# Altium footprint library Connector_PinHeader_1.27mm.PcbLib: 278 footprints (part 14 of 18)
Each footprint in its own frame and in the unit in brackets; x right, y up, seen from the top. Pads: shape width x height; smd on the part's side, far side on the other; paste and mask are expansions set on the pad; w line width, h text height; cw(c..) or ccw(c..) is an arc to the next point about the centre after c.
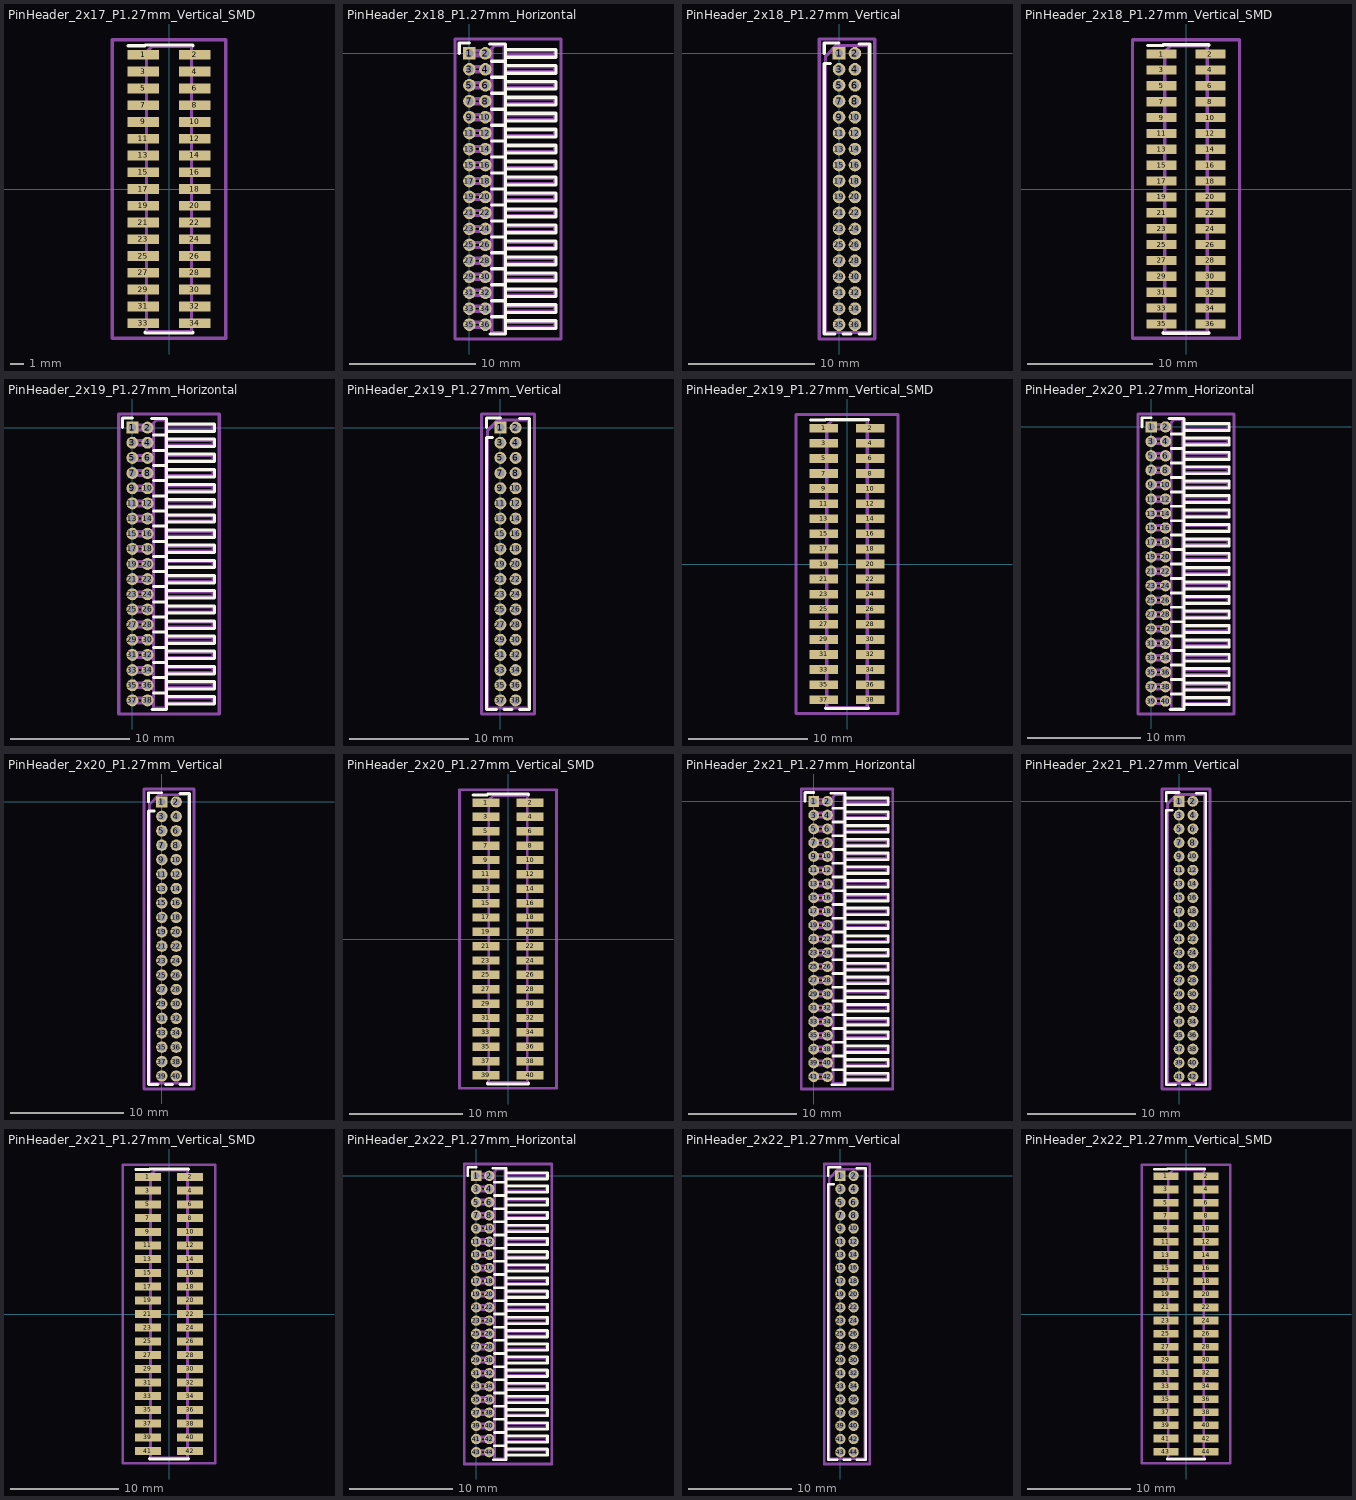
[diagram p13: the footprints below, top view; thin cyan lines are the x and y axes]

## PinHeader_2x17_P1.27mm_Vertical_SMD [mm]
pads (34):
  rect 2.4x0.74 smd: 1(-1.95,10.16) 2(1.95,10.16) 3(-1.95,8.89) 4(1.95,8.89) 5(-1.95,7.62) 6(1.95,7.62) 7(-1.95,6.35) 8(1.95,6.35) 9(-1.95,5.08) 10(1.95,5.08) 11(-1.95,3.81) 12(1.95,3.81) 13(-1.95,2.54) 14(1.95,2.54) 15(-1.95,1.27) 16(1.95,1.27) 17(-1.95,0) 18(1.95,0) 19(-1.95,-1.27) 20(1.95,-1.27) 21(-1.95,-2.54) 22(1.95,-2.54) 23(-1.95,-3.81) 24(1.95,-3.81) 25(-1.95,-5.08) 26(1.95,-5.08) 27(-1.95,-6.35) 28(1.95,-6.35) 29(-1.95,-7.62) 30(1.95,-7.62) 31(-1.95,-8.89) 32(1.95,-8.89) 33(-1.95,-10.16) 34(1.95,-10.16)
F.SilkS:
  lines w0.254: -3.09,10.84 -1.815,10.84 -1.815,10.905 1.815,10.905 1.815,10.84 ; -1.815,-10.84 -1.815,-10.905 1.815,-10.905 1.815,-10.84
Top Assembly:
  lines w0.254: -1.705,-10.36 -2.75,-10.36 -2.75,-9.96 -1.705,-9.96 ; -1.705,-9.09 -2.75,-9.09 -2.75,-8.69 -1.705,-8.69 ; -1.705,-7.82 -2.75,-7.82 -2.75,-7.42 -1.705,-7.42 ; -1.705,-6.55 -2.75,-6.55 -2.75,-6.15 -1.705,-6.15 ; -1.705,-5.28 -2.75,-5.28 -2.75,-4.88 -1.705,-4.88 ; -1.705,-4.01 -2.75,-4.01 -2.75,-3.61 -1.705,-3.61 ; -1.705,-2.74 -2.75,-2.74 -2.75,-2.34 -1.705,-2.34 ; -1.705,-1.47 -2.75,-1.47 -2.75,-1.07 -1.705,-1.07 ; -1.705,-0.2 -2.75,-0.2 -2.75,0.2 -1.705,0.2 ; -1.705,1.07 -2.75,1.07 -2.75,1.47 -1.705,1.47 ; -1.705,2.34 -2.75,2.34 -2.75,2.74 -1.705,2.74 ; -1.705,3.61 -2.75,3.61 -2.75,4.01 -1.705,4.01 ; -1.705,4.88 -2.75,4.88 -2.75,5.28 -1.705,5.28 ; -1.705,6.15 -2.75,6.15 -2.75,6.55 -1.705,6.55 ; -1.705,7.42 -2.75,7.42 -2.75,7.82 -1.705,7.82 ; -1.705,8.69 -2.75,8.69 -2.75,9.09 -1.705,9.09 ; -1.705,9.96 -2.75,9.96 -2.75,10.36 -1.705,10.36 ; 1.705,-10.36 2.75,-10.36 2.75,-9.96 1.705,-9.96 ; 1.705,-9.09 2.75,-9.09 2.75,-8.69 1.705,-8.69 ; 1.705,-7.82 2.75,-7.82 2.75,-7.42 1.705,-7.42 ; 1.705,-6.55 2.75,-6.55 2.75,-6.15 1.705,-6.15 ; 1.705,-5.28 2.75,-5.28 2.75,-4.88 1.705,-4.88 ; 1.705,-4.01 2.75,-4.01 2.75,-3.61 1.705,-3.61 ; 1.705,-2.74 2.75,-2.74 2.75,-2.34 1.705,-2.34 ; 1.705,-1.47 2.75,-1.47 2.75,-1.07 1.705,-1.07 ; 1.705,-0.2 2.75,-0.2 2.75,0.2 1.705,0.2 ; 1.705,1.07 2.75,1.07 2.75,1.47 1.705,1.47 ; 1.705,2.34 2.75,2.34 2.75,2.74 1.705,2.74 ; 1.705,3.61 2.75,3.61 2.75,4.01 1.705,4.01 ; 1.705,4.88 2.75,4.88 2.75,5.28 1.705,5.28 ; 1.705,6.15 2.75,6.15 2.75,6.55 1.705,6.55 ; 1.705,7.42 2.75,7.42 2.75,7.82 1.705,7.82 ; 1.705,8.69 2.75,8.69 2.75,9.09 1.705,9.09 ; 1.705,9.96 2.75,9.96 2.75,10.36 1.705,10.36 ; -1.705,10.36 -1.705,-10.795 1.705,-10.795 1.705,10.795 -1.27,10.795 -1.705,10.36
  text "'.Designator'" at 0.84,-4.047 h1
Top Courtyard:
  lines w0.254: -4.29,-11.3 4.29,-11.3 4.29,11.3 -4.29,11.3 -4.29,-11.3
Top Designator:
  text ".Designator" at -7.618,-0.508 h1.52

## PinHeader_2x18_P1.27mm_Horizontal [mm]
pads (36):
  rect 1x1 hole 0.65: 1(0,0)
  round 1 hole 0.65: 2(1.27,0) 3(0,-1.27) 4(1.27,-1.27) 5(0,-2.54) 6(1.27,-2.54) 7(0,-3.81) 8(1.27,-3.81) 9(0,-5.08) 10(1.27,-5.08) 11(0,-6.35) 12(1.27,-6.35) 13(0,-7.62) 14(1.27,-7.62) 15(0,-8.89) 16(1.27,-8.89) 17(0,-10.16) 18(1.27,-10.16) 19(0,-11.43) 20(1.27,-11.43) 21(0,-12.7) 22(1.27,-12.7) 23(0,-13.97) 24(1.27,-13.97) 25(0,-15.24) 26(1.27,-15.24) 27(0,-16.51) 28(1.27,-16.51) 29(0,-17.78) 30(1.27,-17.78) 31(0,-19.05) 32(1.27,-19.05) 33(0,-20.32) 34(1.27,-20.32) 35(0,-21.59) 36(1.27,-21.59)
F.SilkS:
  lines w0.254: -0.81,0 -0.81,0.81 0,0.81 ; 1.588,0.745 2.88,0.745 2.88,-22.335 1.66,-22.335 ; 1.773,-20.955 2.88,-20.955 ; 1.773,-19.685 2.88,-19.685 ; 1.773,-18.415 2.88,-18.415 ; 1.773,-17.145 2.88,-17.145 ; 1.773,-15.875 2.88,-15.875 ; 1.773,-14.605 2.88,-14.605 ; 1.773,-13.335 2.88,-13.335 ; 1.773,-12.065 2.88,-12.065 ; 1.773,-10.795 2.88,-10.795 ; 1.773,-9.525 2.88,-9.525 ; 1.773,-8.255 2.88,-8.255 ; 1.773,-6.985 2.88,-6.985 ; 1.773,-5.715 2.88,-5.715 ; 1.773,-4.445 2.88,-4.445 ; 1.773,-3.175 2.88,-3.175 ; 1.773,-1.905 2.88,-1.905 ; 1.773,-0.635 2.88,-0.635 ; 2.88,-21.9 6.88,-21.9 6.88,-21.28 2.88,-21.28 ; 2.88,-20.63 6.88,-20.63 6.88,-20.01 2.88,-20.01 ; 2.88,-19.36 6.88,-19.36 6.88,-18.74 2.88,-18.74 ; 2.88,-18.09 6.88,-18.09 6.88,-17.47 2.88,-17.47 ; 2.88,-16.82 6.88,-16.82 6.88,-16.2 2.88,-16.2 ; 2.88,-15.55 6.88,-15.55 6.88,-14.93 2.88,-14.93 ; 2.88,-14.28 6.88,-14.28 6.88,-13.66 2.88,-13.66 ; 2.88,-13.01 6.88,-13.01 6.88,-12.39 2.88,-12.39 ; 2.88,-11.74 6.88,-11.74 6.88,-11.12 2.88,-11.12 ; 2.88,-10.47 6.88,-10.47 6.88,-9.85 2.88,-9.85 ; 2.88,-9.2 6.88,-9.2 6.88,-8.58 2.88,-8.58 ; 2.88,-7.93 6.88,-7.93 6.88,-7.31 2.88,-7.31 ; 2.88,-6.66 6.88,-6.66 6.88,-6.04 2.88,-6.04 ; 2.88,-5.39 6.88,-5.39 6.88,-4.77 2.88,-4.77 ; 2.88,-4.12 6.88,-4.12 6.88,-3.5 2.88,-3.5 ; 2.88,-2.85 6.88,-2.85 6.88,-2.23 2.88,-2.23 ; 2.88,-1.58 6.88,-1.58 6.88,-0.96 2.88,-0.96 ; 2.88,-0.31 6.88,-0.31 6.88,0.31 2.88,0.31 2.88,-0.31
Top Assembly:
  lines w0.254: 1.77,-21.79 -0.2,-21.79 -0.2,-21.39 1.77,-21.39 ; 1.77,-20.52 -0.2,-20.52 -0.2,-20.12 1.77,-20.12 ; 1.77,-19.25 -0.2,-19.25 -0.2,-18.85 1.77,-18.85 ; 1.77,-17.98 -0.2,-17.98 -0.2,-17.58 1.77,-17.58 ; 1.77,-16.71 -0.2,-16.71 -0.2,-16.31 1.77,-16.31 ; 1.77,-15.44 -0.2,-15.44 -0.2,-15.04 1.77,-15.04 ; 1.77,-14.17 -0.2,-14.17 -0.2,-13.77 1.77,-13.77 ; 1.77,-12.9 -0.2,-12.9 -0.2,-12.5 1.77,-12.5 ; 1.77,-11.63 -0.2,-11.63 -0.2,-11.23 1.77,-11.23 ; 1.77,-10.36 -0.2,-10.36 -0.2,-9.96 1.77,-9.96 ; 1.77,-9.09 -0.2,-9.09 -0.2,-8.69 1.77,-8.69 ; 1.77,-7.82 -0.2,-7.82 -0.2,-7.42 1.77,-7.42 ; 1.77,-6.55 -0.2,-6.55 -0.2,-6.15 1.77,-6.15 ; 1.77,-5.28 -0.2,-5.28 -0.2,-4.88 1.77,-4.88 ; 1.77,-4.01 -0.2,-4.01 -0.2,-3.61 1.77,-3.61 ; 1.77,-2.74 -0.2,-2.74 -0.2,-2.34 1.77,-2.34 ; 1.77,-1.47 -0.2,-1.47 -0.2,-1.07 1.77,-1.07 ; 1.77,-0.2 -0.2,-0.2 -0.2,0.2 1.77,0.2 ; 2.77,-21.79 6.77,-21.79 6.77,-21.39 2.77,-21.39 ; 2.77,-20.52 6.77,-20.52 6.77,-20.12 2.77,-20.12 ; 2.77,-19.25 6.77,-19.25 6.77,-18.85 2.77,-18.85 ; 2.77,-17.98 6.77,-17.98 6.77,-17.58 2.77,-17.58 ; 2.77,-16.71 6.77,-16.71 6.77,-16.31 2.77,-16.31 ; 2.77,-15.44 6.77,-15.44 6.77,-15.04 2.77,-15.04 ; 2.77,-14.17 6.77,-14.17 6.77,-13.77 2.77,-13.77 ; 2.77,-12.9 6.77,-12.9 6.77,-12.5 2.77,-12.5 ; 2.77,-11.63 6.77,-11.63 6.77,-11.23 2.77,-11.23 ; 2.77,-10.36 6.77,-10.36 6.77,-9.96 2.77,-9.96 ; 2.77,-9.09 6.77,-9.09 6.77,-8.69 2.77,-8.69 ; 2.77,-7.82 6.77,-7.82 6.77,-7.42 2.77,-7.42 ; 2.77,-6.55 6.77,-6.55 6.77,-6.15 2.77,-6.15 ; 2.77,-5.28 6.77,-5.28 6.77,-4.88 2.77,-4.88 ; 2.77,-4.01 6.77,-4.01 6.77,-3.61 2.77,-3.61 ; 2.77,-2.74 6.77,-2.74 6.77,-2.34 2.77,-2.34 ; 2.77,-1.47 6.77,-1.47 6.77,-1.07 2.77,-1.07 ; 2.77,-0.2 6.77,-0.2 6.77,0.2 2.77,0.2 ; 1.77,-22.225 2.77,-22.225 2.77,0.635 2.02,0.635 1.77,0.385 1.77,-22.225
  text "'.Designator'" at 2.774,-13.223 h0.6
Top Courtyard:
  lines w0.254: -1.14,-22.73 7.28,-22.73 7.28,1.14 -1.14,1.14 -1.14,-22.73
Top Designator:
  text ".Designator" at -4.548,-11.303 h1.52

## PinHeader_2x18_P1.27mm_Vertical [mm]
pads (36):
  rect 1x1 hole 0.65: 1(0,0)
  round 1 hole 0.65: 2(1.27,0) 3(0,-1.27) 4(1.27,-1.27) 5(0,-2.54) 6(1.27,-2.54) 7(0,-3.81) 8(1.27,-3.81) 9(0,-5.08) 10(1.27,-5.08) 11(0,-6.35) 12(1.27,-6.35) 13(0,-7.62) 14(1.27,-7.62) 15(0,-8.89) 16(1.27,-8.89) 17(0,-10.16) 18(1.27,-10.16) 19(0,-11.43) 20(1.27,-11.43) 21(0,-12.7) 22(1.27,-12.7) 23(0,-13.97) 24(1.27,-13.97) 25(0,-15.24) 26(1.27,-15.24) 27(0,-16.51) 28(1.27,-16.51) 29(0,-17.78) 30(1.27,-17.78) 31(0,-19.05) 32(1.27,-19.05) 33(0,-20.32) 34(1.27,-20.32) 35(0,-21.59) 36(1.27,-21.59)
F.SilkS:
  lines w0.254: -1.18,0 -1.18,0.81 0,0.81 ; -0.667,-0.81 -1.18,-0.81 -1.18,-22.335 -0.318,-22.335 ; 0.318,-22.335 0.952,-22.335 ; 1.588,-22.335 2.45,-22.335 2.45,0.745 1.588,0.745
Top Assembly:
  lines w0.254: -1.07,-22.225 2.34,-22.225 2.34,0.635 -0.218,0.635 -1.07,-0.218 -1.07,-22.225
  text "'.Designator'" at 1.475,-14.842 h1
Top Courtyard:
  lines w0.254: -1.57,-22.73 2.84,-22.73 2.84,1.14 -1.57,1.14 -1.57,-22.73
Top Designator:
  text ".Designator" at -6.983,-11.303 h1.52

## PinHeader_2x18_P1.27mm_Vertical_SMD [mm]
pads (36):
  rect 2.4x0.74 smd: 1(-1.95,10.795) 2(1.95,10.795) 3(-1.95,9.525) 4(1.95,9.525) 5(-1.95,8.255) 6(1.95,8.255) 7(-1.95,6.985) 8(1.95,6.985) 9(-1.95,5.715) 10(1.95,5.715) 11(-1.95,4.445) 12(1.95,4.445) 13(-1.95,3.175) 14(1.95,3.175) 15(-1.95,1.905) 16(1.95,1.905) 17(-1.95,0.635) 18(1.95,0.635) 19(-1.95,-0.635) 20(1.95,-0.635) 21(-1.95,-1.905) 22(1.95,-1.905) 23(-1.95,-3.175) 24(1.95,-3.175) 25(-1.95,-4.445) 26(1.95,-4.445) 27(-1.95,-5.715) 28(1.95,-5.715) 29(-1.95,-6.985) 30(1.95,-6.985) 31(-1.95,-8.255) 32(1.95,-8.255) 33(-1.95,-9.525) 34(1.95,-9.525) 35(-1.95,-10.795) 36(1.95,-10.795)
F.SilkS:
  lines w0.254: -3.09,11.475 -1.815,11.475 -1.815,11.54 1.815,11.54 1.815,11.475 ; -1.815,-11.475 -1.815,-11.54 1.815,-11.54 1.815,-11.475
Top Assembly:
  lines w0.254: -1.705,-10.995 -2.75,-10.995 -2.75,-10.595 -1.705,-10.595 ; -1.705,-9.725 -2.75,-9.725 -2.75,-9.325 -1.705,-9.325 ; -1.705,-8.455 -2.75,-8.455 -2.75,-8.055 -1.705,-8.055 ; -1.705,-7.185 -2.75,-7.185 -2.75,-6.785 -1.705,-6.785 ; -1.705,-5.915 -2.75,-5.915 -2.75,-5.515 -1.705,-5.515 ; -1.705,-4.645 -2.75,-4.645 -2.75,-4.245 -1.705,-4.245 ; -1.705,-3.375 -2.75,-3.375 -2.75,-2.975 -1.705,-2.975 ; -1.705,-2.105 -2.75,-2.105 -2.75,-1.705 -1.705,-1.705 ; -1.705,-0.835 -2.75,-0.835 -2.75,-0.435 -1.705,-0.435 ; -1.705,0.435 -2.75,0.435 -2.75,0.835 -1.705,0.835 ; -1.705,1.705 -2.75,1.705 -2.75,2.105 -1.705,2.105 ; -1.705,2.975 -2.75,2.975 -2.75,3.375 -1.705,3.375 ; -1.705,4.245 -2.75,4.245 -2.75,4.645 -1.705,4.645 ; -1.705,5.515 -2.75,5.515 -2.75,5.915 -1.705,5.915 ; -1.705,6.785 -2.75,6.785 -2.75,7.185 -1.705,7.185 ; -1.705,8.055 -2.75,8.055 -2.75,8.455 -1.705,8.455 ; -1.705,9.325 -2.75,9.325 -2.75,9.725 -1.705,9.725 ; -1.705,10.595 -2.75,10.595 -2.75,10.995 -1.705,10.995 ; 1.705,-10.995 2.75,-10.995 2.75,-10.595 1.705,-10.595 ; 1.705,-9.725 2.75,-9.725 2.75,-9.325 1.705,-9.325 ; 1.705,-8.455 2.75,-8.455 2.75,-8.055 1.705,-8.055 ; 1.705,-7.185 2.75,-7.185 2.75,-6.785 1.705,-6.785 ; 1.705,-5.915 2.75,-5.915 2.75,-5.515 1.705,-5.515 ; 1.705,-4.645 2.75,-4.645 2.75,-4.245 1.705,-4.245 ; 1.705,-3.375 2.75,-3.375 2.75,-2.975 1.705,-2.975 ; 1.705,-2.105 2.75,-2.105 2.75,-1.705 1.705,-1.705 ; 1.705,-0.835 2.75,-0.835 2.75,-0.435 1.705,-0.435 ; 1.705,0.435 2.75,0.435 2.75,0.835 1.705,0.835 ; 1.705,1.705 2.75,1.705 2.75,2.105 1.705,2.105 ; 1.705,2.975 2.75,2.975 2.75,3.375 1.705,3.375 ; 1.705,4.245 2.75,4.245 2.75,4.645 1.705,4.645 ; 1.705,5.515 2.75,5.515 2.75,5.915 1.705,5.915 ; 1.705,6.785 2.75,6.785 2.75,7.185 1.705,7.185 ; 1.705,8.055 2.75,8.055 2.75,8.455 1.705,8.455 ; 1.705,9.325 2.75,9.325 2.75,9.725 1.705,9.725 ; 1.705,10.595 2.75,10.595 2.75,10.995 1.705,10.995 ; -1.705,10.995 -1.705,-11.43 1.705,-11.43 1.705,11.43 -1.27,11.43 -1.705,10.995
  text "'.Designator'" at 0.84,-4.047 h1
Top Courtyard:
  lines w0.254: -4.29,-11.94 4.29,-11.94 4.29,11.94 -4.29,11.94 -4.29,-11.94
Top Designator:
  text ".Designator" at -7.618,-0.508 h1.52

## PinHeader_2x19_P1.27mm_Horizontal [mm]
pads (38):
  rect 1x1 hole 0.65: 1(0,0)
  round 1 hole 0.65: 2(1.27,0) 3(0,-1.27) 4(1.27,-1.27) 5(0,-2.54) 6(1.27,-2.54) 7(0,-3.81) 8(1.27,-3.81) 9(0,-5.08) 10(1.27,-5.08) 11(0,-6.35) 12(1.27,-6.35) 13(0,-7.62) 14(1.27,-7.62) 15(0,-8.89) 16(1.27,-8.89) 17(0,-10.16) 18(1.27,-10.16) 19(0,-11.43) 20(1.27,-11.43) 21(0,-12.7) 22(1.27,-12.7) 23(0,-13.97) 24(1.27,-13.97) 25(0,-15.24) 26(1.27,-15.24) 27(0,-16.51) 28(1.27,-16.51) 29(0,-17.78) 30(1.27,-17.78) 31(0,-19.05) 32(1.27,-19.05) 33(0,-20.32) 34(1.27,-20.32) 35(0,-21.59) 36(1.27,-21.59) 37(0,-22.86) 38(1.27,-22.86)
F.SilkS:
  lines w0.254: -0.81,0 -0.81,0.81 0,0.81 ; 1.588,0.745 2.88,0.745 2.88,-23.605 1.66,-23.605 ; 1.773,-22.225 2.88,-22.225 ; 1.773,-20.955 2.88,-20.955 ; 1.773,-19.685 2.88,-19.685 ; 1.773,-18.415 2.88,-18.415 ; 1.773,-17.145 2.88,-17.145 ; 1.773,-15.875 2.88,-15.875 ; 1.773,-14.605 2.88,-14.605 ; 1.773,-13.335 2.88,-13.335 ; 1.773,-12.065 2.88,-12.065 ; 1.773,-10.795 2.88,-10.795 ; 1.773,-9.525 2.88,-9.525 ; 1.773,-8.255 2.88,-8.255 ; 1.773,-6.985 2.88,-6.985 ; 1.773,-5.715 2.88,-5.715 ; 1.773,-4.445 2.88,-4.445 ; 1.773,-3.175 2.88,-3.175 ; 1.773,-1.905 2.88,-1.905 ; 1.773,-0.635 2.88,-0.635 ; 2.88,-23.17 6.88,-23.17 6.88,-22.55 2.88,-22.55 ; 2.88,-21.9 6.88,-21.9 6.88,-21.28 2.88,-21.28 ; 2.88,-20.63 6.88,-20.63 6.88,-20.01 2.88,-20.01 ; 2.88,-19.36 6.88,-19.36 6.88,-18.74 2.88,-18.74 ; 2.88,-18.09 6.88,-18.09 6.88,-17.47 2.88,-17.47 ; 2.88,-16.82 6.88,-16.82 6.88,-16.2 2.88,-16.2 ; 2.88,-15.55 6.88,-15.55 6.88,-14.93 2.88,-14.93 ; 2.88,-14.28 6.88,-14.28 6.88,-13.66 2.88,-13.66 ; 2.88,-13.01 6.88,-13.01 6.88,-12.39 2.88,-12.39 ; 2.88,-11.74 6.88,-11.74 6.88,-11.12 2.88,-11.12 ; 2.88,-10.47 6.88,-10.47 6.88,-9.85 2.88,-9.85 ; 2.88,-9.2 6.88,-9.2 6.88,-8.58 2.88,-8.58 ; 2.88,-7.93 6.88,-7.93 6.88,-7.31 2.88,-7.31 ; 2.88,-6.66 6.88,-6.66 6.88,-6.04 2.88,-6.04 ; 2.88,-5.39 6.88,-5.39 6.88,-4.77 2.88,-4.77 ; 2.88,-4.12 6.88,-4.12 6.88,-3.5 2.88,-3.5 ; 2.88,-2.85 6.88,-2.85 6.88,-2.23 2.88,-2.23 ; 2.88,-1.58 6.88,-1.58 6.88,-0.96 2.88,-0.96 ; 2.88,-0.31 6.88,-0.31 6.88,0.31 2.88,0.31 2.88,-0.31
Top Assembly:
  lines w0.254: 1.77,-23.06 -0.2,-23.06 -0.2,-22.66 1.77,-22.66 ; 1.77,-21.79 -0.2,-21.79 -0.2,-21.39 1.77,-21.39 ; 1.77,-20.52 -0.2,-20.52 -0.2,-20.12 1.77,-20.12 ; 1.77,-19.25 -0.2,-19.25 -0.2,-18.85 1.77,-18.85 ; 1.77,-17.98 -0.2,-17.98 -0.2,-17.58 1.77,-17.58 ; 1.77,-16.71 -0.2,-16.71 -0.2,-16.31 1.77,-16.31 ; 1.77,-15.44 -0.2,-15.44 -0.2,-15.04 1.77,-15.04 ; 1.77,-14.17 -0.2,-14.17 -0.2,-13.77 1.77,-13.77 ; 1.77,-12.9 -0.2,-12.9 -0.2,-12.5 1.77,-12.5 ; 1.77,-11.63 -0.2,-11.63 -0.2,-11.23 1.77,-11.23 ; 1.77,-10.36 -0.2,-10.36 -0.2,-9.96 1.77,-9.96 ; 1.77,-9.09 -0.2,-9.09 -0.2,-8.69 1.77,-8.69 ; 1.77,-7.82 -0.2,-7.82 -0.2,-7.42 1.77,-7.42 ; 1.77,-6.55 -0.2,-6.55 -0.2,-6.15 1.77,-6.15 ; 1.77,-5.28 -0.2,-5.28 -0.2,-4.88 1.77,-4.88 ; 1.77,-4.01 -0.2,-4.01 -0.2,-3.61 1.77,-3.61 ; 1.77,-2.74 -0.2,-2.74 -0.2,-2.34 1.77,-2.34 ; 1.77,-1.47 -0.2,-1.47 -0.2,-1.07 1.77,-1.07 ; 1.77,-0.2 -0.2,-0.2 -0.2,0.2 1.77,0.2 ; 2.77,-23.06 6.77,-23.06 6.77,-22.66 2.77,-22.66 ; 2.77,-21.79 6.77,-21.79 6.77,-21.39 2.77,-21.39 ; 2.77,-20.52 6.77,-20.52 6.77,-20.12 2.77,-20.12 ; 2.77,-19.25 6.77,-19.25 6.77,-18.85 2.77,-18.85 ; 2.77,-17.98 6.77,-17.98 6.77,-17.58 2.77,-17.58 ; 2.77,-16.71 6.77,-16.71 6.77,-16.31 2.77,-16.31 ; 2.77,-15.44 6.77,-15.44 6.77,-15.04 2.77,-15.04 ; 2.77,-14.17 6.77,-14.17 6.77,-13.77 2.77,-13.77 ; 2.77,-12.9 6.77,-12.9 6.77,-12.5 2.77,-12.5 ; 2.77,-11.63 6.77,-11.63 6.77,-11.23 2.77,-11.23 ; 2.77,-10.36 6.77,-10.36 6.77,-9.96 2.77,-9.96 ; 2.77,-9.09 6.77,-9.09 6.77,-8.69 2.77,-8.69 ; 2.77,-7.82 6.77,-7.82 6.77,-7.42 2.77,-7.42 ; 2.77,-6.55 6.77,-6.55 6.77,-6.15 2.77,-6.15 ; 2.77,-5.28 6.77,-5.28 6.77,-4.88 2.77,-4.88 ; 2.77,-4.01 6.77,-4.01 6.77,-3.61 2.77,-3.61 ; 2.77,-2.74 6.77,-2.74 6.77,-2.34 2.77,-2.34 ; 2.77,-1.47 6.77,-1.47 6.77,-1.07 2.77,-1.07 ; 2.77,-0.2 6.77,-0.2 6.77,0.2 2.77,0.2 ; 1.77,-23.495 2.77,-23.495 2.77,0.635 2.02,0.635 1.77,0.385 1.77,-23.495
  text "'.Designator'" at 2.774,-13.858 h0.6
Top Courtyard:
  lines w0.254: -1.14,-24 7.28,-24 7.28,1.14 -1.14,1.14 -1.14,-24
Top Designator:
  text ".Designator" at -4.548,-11.938 h1.52

## PinHeader_2x19_P1.27mm_Vertical [mm]
pads (38):
  rect 1x1 hole 0.65: 1(0,0)
  round 1 hole 0.65: 2(1.27,0) 3(0,-1.27) 4(1.27,-1.27) 5(0,-2.54) 6(1.27,-2.54) 7(0,-3.81) 8(1.27,-3.81) 9(0,-5.08) 10(1.27,-5.08) 11(0,-6.35) 12(1.27,-6.35) 13(0,-7.62) 14(1.27,-7.62) 15(0,-8.89) 16(1.27,-8.89) 17(0,-10.16) 18(1.27,-10.16) 19(0,-11.43) 20(1.27,-11.43) 21(0,-12.7) 22(1.27,-12.7) 23(0,-13.97) 24(1.27,-13.97) 25(0,-15.24) 26(1.27,-15.24) 27(0,-16.51) 28(1.27,-16.51) 29(0,-17.78) 30(1.27,-17.78) 31(0,-19.05) 32(1.27,-19.05) 33(0,-20.32) 34(1.27,-20.32) 35(0,-21.59) 36(1.27,-21.59) 37(0,-22.86) 38(1.27,-22.86)
F.SilkS:
  lines w0.254: -1.18,0 -1.18,0.81 0,0.81 ; -0.667,-0.81 -1.18,-0.81 -1.18,-23.605 -0.318,-23.605 ; 0.318,-23.605 0.952,-23.605 ; 1.588,-23.605 2.45,-23.605 2.45,0.745 1.588,0.745
Top Assembly:
  lines w0.254: -1.07,-23.495 2.34,-23.495 2.34,0.635 -0.218,0.635 -1.07,-0.218 -1.07,-23.495
  text "'.Designator'" at 1.475,-15.477 h1
Top Courtyard:
  lines w0.254: -1.57,-24 2.84,-24 2.84,1.14 -1.57,1.14 -1.57,-24
Top Designator:
  text ".Designator" at -6.983,-11.938 h1.52

## PinHeader_2x19_P1.27mm_Vertical_SMD [mm]
pads (38):
  rect 2.4x0.74 smd: 1(-1.95,11.43) 2(1.95,11.43) 3(-1.95,10.16) 4(1.95,10.16) 5(-1.95,8.89) 6(1.95,8.89) 7(-1.95,7.62) 8(1.95,7.62) 9(-1.95,6.35) 10(1.95,6.35) 11(-1.95,5.08) 12(1.95,5.08) 13(-1.95,3.81) 14(1.95,3.81) 15(-1.95,2.54) 16(1.95,2.54) 17(-1.95,1.27) 18(1.95,1.27) 19(-1.95,0) 20(1.95,0) 21(-1.95,-1.27) 22(1.95,-1.27) 23(-1.95,-2.54) 24(1.95,-2.54) 25(-1.95,-3.81) 26(1.95,-3.81) 27(-1.95,-5.08) 28(1.95,-5.08) 29(-1.95,-6.35) 30(1.95,-6.35) 31(-1.95,-7.62) 32(1.95,-7.62) 33(-1.95,-8.89) 34(1.95,-8.89) 35(-1.95,-10.16) 36(1.95,-10.16) 37(-1.95,-11.43) 38(1.95,-11.43)
F.SilkS:
  lines w0.254: -3.09,12.11 -1.815,12.11 -1.815,12.175 1.815,12.175 1.815,12.11 ; -1.815,-12.11 -1.815,-12.175 1.815,-12.175 1.815,-12.11
Top Assembly:
  lines w0.254: -1.705,-11.63 -2.75,-11.63 -2.75,-11.23 -1.705,-11.23 ; -1.705,-10.36 -2.75,-10.36 -2.75,-9.96 -1.705,-9.96 ; -1.705,-9.09 -2.75,-9.09 -2.75,-8.69 -1.705,-8.69 ; -1.705,-7.82 -2.75,-7.82 -2.75,-7.42 -1.705,-7.42 ; -1.705,-6.55 -2.75,-6.55 -2.75,-6.15 -1.705,-6.15 ; -1.705,-5.28 -2.75,-5.28 -2.75,-4.88 -1.705,-4.88 ; -1.705,-4.01 -2.75,-4.01 -2.75,-3.61 -1.705,-3.61 ; -1.705,-2.74 -2.75,-2.74 -2.75,-2.34 -1.705,-2.34 ; -1.705,-1.47 -2.75,-1.47 -2.75,-1.07 -1.705,-1.07 ; -1.705,-0.2 -2.75,-0.2 -2.75,0.2 -1.705,0.2 ; -1.705,1.07 -2.75,1.07 -2.75,1.47 -1.705,1.47 ; -1.705,2.34 -2.75,2.34 -2.75,2.74 -1.705,2.74 ; -1.705,3.61 -2.75,3.61 -2.75,4.01 -1.705,4.01 ; -1.705,4.88 -2.75,4.88 -2.75,5.28 -1.705,5.28 ; -1.705,6.15 -2.75,6.15 -2.75,6.55 -1.705,6.55 ; -1.705,7.42 -2.75,7.42 -2.75,7.82 -1.705,7.82 ; -1.705,8.69 -2.75,8.69 -2.75,9.09 -1.705,9.09 ; -1.705,9.96 -2.75,9.96 -2.75,10.36 -1.705,10.36 ; -1.705,11.23 -2.75,11.23 -2.75,11.63 -1.705,11.63 ; 1.705,-11.63 2.75,-11.63 2.75,-11.23 1.705,-11.23 ; 1.705,-10.36 2.75,-10.36 2.75,-9.96 1.705,-9.96 ; 1.705,-9.09 2.75,-9.09 2.75,-8.69 1.705,-8.69 ; 1.705,-7.82 2.75,-7.82 2.75,-7.42 1.705,-7.42 ; 1.705,-6.55 2.75,-6.55 2.75,-6.15 1.705,-6.15 ; 1.705,-5.28 2.75,-5.28 2.75,-4.88 1.705,-4.88 ; 1.705,-4.01 2.75,-4.01 2.75,-3.61 1.705,-3.61 ; 1.705,-2.74 2.75,-2.74 2.75,-2.34 1.705,-2.34 ; 1.705,-1.47 2.75,-1.47 2.75,-1.07 1.705,-1.07 ; 1.705,-0.2 2.75,-0.2 2.75,0.2 1.705,0.2 ; 1.705,1.07 2.75,1.07 2.75,1.47 1.705,1.47 ; 1.705,2.34 2.75,2.34 2.75,2.74 1.705,2.74 ; 1.705,3.61 2.75,3.61 2.75,4.01 1.705,4.01 ; 1.705,4.88 2.75,4.88 2.75,5.28 1.705,5.28 ; 1.705,6.15 2.75,6.15 2.75,6.55 1.705,6.55 ; 1.705,7.42 2.75,7.42 2.75,7.82 1.705,7.82 ; 1.705,8.69 2.75,8.69 2.75,9.09 1.705,9.09 ; 1.705,9.96 2.75,9.96 2.75,10.36 1.705,10.36 ; 1.705,11.23 2.75,11.23 2.75,11.63 1.705,11.63 ; -1.705,11.63 -1.705,-12.065 1.705,-12.065 1.705,12.065 -1.27,12.065 -1.705,11.63
  text "'.Designator'" at 0.84,-4.047 h1
Top Courtyard:
  lines w0.254: -4.29,-12.57 4.29,-12.57 4.29,12.57 -4.29,12.57 -4.29,-12.57
Top Designator:
  text ".Designator" at -7.618,-0.508 h1.52

## PinHeader_2x20_P1.27mm_Horizontal [mm]
pads (40):
  rect 1x1 hole 0.65: 1(0,0)
  round 1 hole 0.65: 2(1.27,0) 3(0,-1.27) 4(1.27,-1.27) 5(0,-2.54) 6(1.27,-2.54) 7(0,-3.81) 8(1.27,-3.81) 9(0,-5.08) 10(1.27,-5.08) 11(0,-6.35) 12(1.27,-6.35) 13(0,-7.62) 14(1.27,-7.62) 15(0,-8.89) 16(1.27,-8.89) 17(0,-10.16) 18(1.27,-10.16) 19(0,-11.43) 20(1.27,-11.43) 21(0,-12.7) 22(1.27,-12.7) 23(0,-13.97) 24(1.27,-13.97) 25(0,-15.24) 26(1.27,-15.24) 27(0,-16.51) 28(1.27,-16.51) 29(0,-17.78) 30(1.27,-17.78) 31(0,-19.05) 32(1.27,-19.05) 33(0,-20.32) 34(1.27,-20.32) 35(0,-21.59) 36(1.27,-21.59) 37(0,-22.86) 38(1.27,-22.86) 39(0,-24.13) 40(1.27,-24.13)
F.SilkS:
  lines w0.254: -0.81,0 -0.81,0.81 0,0.81 ; 1.588,0.745 2.88,0.745 2.88,-24.875 1.66,-24.875 ; 1.773,-23.495 2.88,-23.495 ; 1.773,-22.225 2.88,-22.225 ; 1.773,-20.955 2.88,-20.955 ; 1.773,-19.685 2.88,-19.685 ; 1.773,-18.415 2.88,-18.415 ; 1.773,-17.145 2.88,-17.145 ; 1.773,-15.875 2.88,-15.875 ; 1.773,-14.605 2.88,-14.605 ; 1.773,-13.335 2.88,-13.335 ; 1.773,-12.065 2.88,-12.065 ; 1.773,-10.795 2.88,-10.795 ; 1.773,-9.525 2.88,-9.525 ; 1.773,-8.255 2.88,-8.255 ; 1.773,-6.985 2.88,-6.985 ; 1.773,-5.715 2.88,-5.715 ; 1.773,-4.445 2.88,-4.445 ; 1.773,-3.175 2.88,-3.175 ; 1.773,-1.905 2.88,-1.905 ; 1.773,-0.635 2.88,-0.635 ; 2.88,-24.44 6.88,-24.44 6.88,-23.82 2.88,-23.82 ; 2.88,-23.17 6.88,-23.17 6.88,-22.55 2.88,-22.55 ; 2.88,-21.9 6.88,-21.9 6.88,-21.28 2.88,-21.28 ; 2.88,-20.63 6.88,-20.63 6.88,-20.01 2.88,-20.01 ; 2.88,-19.36 6.88,-19.36 6.88,-18.74 2.88,-18.74 ; 2.88,-18.09 6.88,-18.09 6.88,-17.47 2.88,-17.47 ; 2.88,-16.82 6.88,-16.82 6.88,-16.2 2.88,-16.2 ; 2.88,-15.55 6.88,-15.55 6.88,-14.93 2.88,-14.93 ; 2.88,-14.28 6.88,-14.28 6.88,-13.66 2.88,-13.66 ; 2.88,-13.01 6.88,-13.01 6.88,-12.39 2.88,-12.39 ; 2.88,-11.74 6.88,-11.74 6.88,-11.12 2.88,-11.12 ; 2.88,-10.47 6.88,-10.47 6.88,-9.85 2.88,-9.85 ; 2.88,-9.2 6.88,-9.2 6.88,-8.58 2.88,-8.58 ; 2.88,-7.93 6.88,-7.93 6.88,-7.31 2.88,-7.31 ; 2.88,-6.66 6.88,-6.66 6.88,-6.04 2.88,-6.04 ; 2.88,-5.39 6.88,-5.39 6.88,-4.77 2.88,-4.77 ; 2.88,-4.12 6.88,-4.12 6.88,-3.5 2.88,-3.5 ; 2.88,-2.85 6.88,-2.85 6.88,-2.23 2.88,-2.23 ; 2.88,-1.58 6.88,-1.58 6.88,-0.96 2.88,-0.96 ; 2.88,-0.31 6.88,-0.31 6.88,0.31 2.88,0.31 2.88,-0.31
Top Assembly:
  lines w0.254: 1.77,-24.33 -0.2,-24.33 -0.2,-23.93 1.77,-23.93 ; 1.77,-23.06 -0.2,-23.06 -0.2,-22.66 1.77,-22.66 ; 1.77,-21.79 -0.2,-21.79 -0.2,-21.39 1.77,-21.39 ; 1.77,-20.52 -0.2,-20.52 -0.2,-20.12 1.77,-20.12 ; 1.77,-19.25 -0.2,-19.25 -0.2,-18.85 1.77,-18.85 ; 1.77,-17.98 -0.2,-17.98 -0.2,-17.58 1.77,-17.58 ; 1.77,-16.71 -0.2,-16.71 -0.2,-16.31 1.77,-16.31 ; 1.77,-15.44 -0.2,-15.44 -0.2,-15.04 1.77,-15.04 ; 1.77,-14.17 -0.2,-14.17 -0.2,-13.77 1.77,-13.77 ; 1.77,-12.9 -0.2,-12.9 -0.2,-12.5 1.77,-12.5 ; 1.77,-11.63 -0.2,-11.63 -0.2,-11.23 1.77,-11.23 ; 1.77,-10.36 -0.2,-10.36 -0.2,-9.96 1.77,-9.96 ; 1.77,-9.09 -0.2,-9.09 -0.2,-8.69 1.77,-8.69 ; 1.77,-7.82 -0.2,-7.82 -0.2,-7.42 1.77,-7.42 ; 1.77,-6.55 -0.2,-6.55 -0.2,-6.15 1.77,-6.15 ; 1.77,-5.28 -0.2,-5.28 -0.2,-4.88 1.77,-4.88 ; 1.77,-4.01 -0.2,-4.01 -0.2,-3.61 1.77,-3.61 ; 1.77,-2.74 -0.2,-2.74 -0.2,-2.34 1.77,-2.34 ; 1.77,-1.47 -0.2,-1.47 -0.2,-1.07 1.77,-1.07 ; 1.77,-0.2 -0.2,-0.2 -0.2,0.2 1.77,0.2 ; 2.77,-24.33 6.77,-24.33 6.77,-23.93 2.77,-23.93 ; 2.77,-23.06 6.77,-23.06 6.77,-22.66 2.77,-22.66 ; 2.77,-21.79 6.77,-21.79 6.77,-21.39 2.77,-21.39 ; 2.77,-20.52 6.77,-20.52 6.77,-20.12 2.77,-20.12 ; 2.77,-19.25 6.77,-19.25 6.77,-18.85 2.77,-18.85 ; 2.77,-17.98 6.77,-17.98 6.77,-17.58 2.77,-17.58 ; 2.77,-16.71 6.77,-16.71 6.77,-16.31 2.77,-16.31 ; 2.77,-15.44 6.77,-15.44 6.77,-15.04 2.77,-15.04 ; 2.77,-14.17 6.77,-14.17 6.77,-13.77 2.77,-13.77 ; 2.77,-12.9 6.77,-12.9 6.77,-12.5 2.77,-12.5 ; 2.77,-11.63 6.77,-11.63 6.77,-11.23 2.77,-11.23 ; 2.77,-10.36 6.77,-10.36 6.77,-9.96 2.77,-9.96 ; 2.77,-9.09 6.77,-9.09 6.77,-8.69 2.77,-8.69 ; 2.77,-7.82 6.77,-7.82 6.77,-7.42 2.77,-7.42 ; 2.77,-6.55 6.77,-6.55 6.77,-6.15 2.77,-6.15 ; 2.77,-5.28 6.77,-5.28 6.77,-4.88 2.77,-4.88 ; 2.77,-4.01 6.77,-4.01 6.77,-3.61 2.77,-3.61 ; 2.77,-2.74 6.77,-2.74 6.77,-2.34 2.77,-2.34 ; 2.77,-1.47 6.77,-1.47 6.77,-1.07 2.77,-1.07 ; 2.77,-0.2 6.77,-0.2 6.77,0.2 2.77,0.2 ; 1.77,-24.765 2.77,-24.765 2.77,0.635 2.02,0.635 1.77,0.385 1.77,-24.765
  text "'.Designator'" at 2.774,-14.493 h0.6
Top Courtyard:
  lines w0.254: -1.14,-25.27 7.28,-25.27 7.28,1.14 -1.14,1.14 -1.14,-25.27
Top Designator:
  text ".Designator" at -4.548,-12.573 h1.52

## PinHeader_2x20_P1.27mm_Vertical [mm]
pads (40):
  rect 1x1 hole 0.65: 1(0,0)
  round 1 hole 0.65: 2(1.27,0) 3(0,-1.27) 4(1.27,-1.27) 5(0,-2.54) 6(1.27,-2.54) 7(0,-3.81) 8(1.27,-3.81) 9(0,-5.08) 10(1.27,-5.08) 11(0,-6.35) 12(1.27,-6.35) 13(0,-7.62) 14(1.27,-7.62) 15(0,-8.89) 16(1.27,-8.89) 17(0,-10.16) 18(1.27,-10.16) 19(0,-11.43) 20(1.27,-11.43) 21(0,-12.7) 22(1.27,-12.7) 23(0,-13.97) 24(1.27,-13.97) 25(0,-15.24) 26(1.27,-15.24) 27(0,-16.51) 28(1.27,-16.51) 29(0,-17.78) 30(1.27,-17.78) 31(0,-19.05) 32(1.27,-19.05) 33(0,-20.32) 34(1.27,-20.32) 35(0,-21.59) 36(1.27,-21.59) 37(0,-22.86) 38(1.27,-22.86) 39(0,-24.13) 40(1.27,-24.13)
F.SilkS:
  lines w0.254: -1.18,0 -1.18,0.81 0,0.81 ; -0.667,-0.81 -1.18,-0.81 -1.18,-24.875 -0.318,-24.875 ; 0.318,-24.875 0.952,-24.875 ; 1.588,-24.875 2.45,-24.875 2.45,0.745 1.588,0.745
Top Assembly:
  lines w0.254: -1.07,-24.765 2.34,-24.765 2.34,0.635 -0.218,0.635 -1.07,-0.218 -1.07,-24.765
  text "'.Designator'" at 1.475,-16.112 h1
Top Courtyard:
  lines w0.254: -1.57,-25.27 2.84,-25.27 2.84,1.14 -1.57,1.14 -1.57,-25.27
Top Designator:
  text ".Designator" at -6.983,-12.573 h1.52

## PinHeader_2x20_P1.27mm_Vertical_SMD [mm]
pads (40):
  rect 2.4x0.74 smd: 1(-1.95,12.065) 2(1.95,12.065) 3(-1.95,10.795) 4(1.95,10.795) 5(-1.95,9.525) 6(1.95,9.525) 7(-1.95,8.255) 8(1.95,8.255) 9(-1.95,6.985) 10(1.95,6.985) 11(-1.95,5.715) 12(1.95,5.715) 13(-1.95,4.445) 14(1.95,4.445) 15(-1.95,3.175) 16(1.95,3.175) 17(-1.95,1.905) 18(1.95,1.905) 19(-1.95,0.635) 20(1.95,0.635) 21(-1.95,-0.635) 22(1.95,-0.635) 23(-1.95,-1.905) 24(1.95,-1.905) 25(-1.95,-3.175) 26(1.95,-3.175) 27(-1.95,-4.445) 28(1.95,-4.445) 29(-1.95,-5.715) 30(1.95,-5.715) 31(-1.95,-6.985) 32(1.95,-6.985) 33(-1.95,-8.255) 34(1.95,-8.255) 35(-1.95,-9.525) 36(1.95,-9.525) 37(-1.95,-10.795) 38(1.95,-10.795) 39(-1.95,-12.065) 40(1.95,-12.065)
F.SilkS:
  lines w0.254: -3.09,12.745 -1.815,12.745 -1.815,12.81 1.815,12.81 1.815,12.745 ; -1.815,-12.745 -1.815,-12.81 1.815,-12.81 1.815,-12.745
Top Assembly:
  lines w0.254: -1.705,-12.265 -2.75,-12.265 -2.75,-11.865 -1.705,-11.865 ; -1.705,-10.995 -2.75,-10.995 -2.75,-10.595 -1.705,-10.595 ; -1.705,-9.725 -2.75,-9.725 -2.75,-9.325 -1.705,-9.325 ; -1.705,-8.455 -2.75,-8.455 -2.75,-8.055 -1.705,-8.055 ; -1.705,-7.185 -2.75,-7.185 -2.75,-6.785 -1.705,-6.785 ; -1.705,-5.915 -2.75,-5.915 -2.75,-5.515 -1.705,-5.515 ; -1.705,-4.645 -2.75,-4.645 -2.75,-4.245 -1.705,-4.245 ; -1.705,-3.375 -2.75,-3.375 -2.75,-2.975 -1.705,-2.975 ; -1.705,-2.105 -2.75,-2.105 -2.75,-1.705 -1.705,-1.705 ; -1.705,-0.835 -2.75,-0.835 -2.75,-0.435 -1.705,-0.435 ; -1.705,0.435 -2.75,0.435 -2.75,0.835 -1.705,0.835 ; -1.705,1.705 -2.75,1.705 -2.75,2.105 -1.705,2.105 ; -1.705,2.975 -2.75,2.975 -2.75,3.375 -1.705,3.375 ; -1.705,4.245 -2.75,4.245 -2.75,4.645 -1.705,4.645 ; -1.705,5.515 -2.75,5.515 -2.75,5.915 -1.705,5.915 ; -1.705,6.785 -2.75,6.785 -2.75,7.185 -1.705,7.185 ; -1.705,8.055 -2.75,8.055 -2.75,8.455 -1.705,8.455 ; -1.705,9.325 -2.75,9.325 -2.75,9.725 -1.705,9.725 ; -1.705,10.595 -2.75,10.595 -2.75,10.995 -1.705,10.995 ; -1.705,11.865 -2.75,11.865 -2.75,12.265 -1.705,12.265 ; 1.705,-12.265 2.75,-12.265 2.75,-11.865 1.705,-11.865 ; 1.705,-10.995 2.75,-10.995 2.75,-10.595 1.705,-10.595 ; 1.705,-9.725 2.75,-9.725 2.75,-9.325 1.705,-9.325 ; 1.705,-8.455 2.75,-8.455 2.75,-8.055 1.705,-8.055 ; 1.705,-7.185 2.75,-7.185 2.75,-6.785 1.705,-6.785 ; 1.705,-5.915 2.75,-5.915 2.75,-5.515 1.705,-5.515 ; 1.705,-4.645 2.75,-4.645 2.75,-4.245 1.705,-4.245 ; 1.705,-3.375 2.75,-3.375 2.75,-2.975 1.705,-2.975 ; 1.705,-2.105 2.75,-2.105 2.75,-1.705 1.705,-1.705 ; 1.705,-0.835 2.75,-0.835 2.75,-0.435 1.705,-0.435 ; 1.705,0.435 2.75,0.435 2.75,0.835 1.705,0.835 ; 1.705,1.705 2.75,1.705 2.75,2.105 1.705,2.105 ; 1.705,2.975 2.75,2.975 2.75,3.375 1.705,3.375 ; 1.705,4.245 2.75,4.245 2.75,4.645 1.705,4.645 ; 1.705,5.515 2.75,5.515 2.75,5.915 1.705,5.915 ; 1.705,6.785 2.75,6.785 2.75,7.185 1.705,7.185 ; 1.705,8.055 2.75,8.055 2.75,8.455 1.705,8.455 ; 1.705,9.325 2.75,9.325 2.75,9.725 1.705,9.725 ; 1.705,10.595 2.75,10.595 2.75,10.995 1.705,10.995 ; 1.705,11.865 2.75,11.865 2.75,12.265 1.705,12.265 ; -1.705,12.265 -1.705,-12.7 1.705,-12.7 1.705,12.7 -1.27,12.7 -1.705,12.265
  text "'.Designator'" at 0.84,-4.047 h1
Top Courtyard:
  lines w0.254: -4.29,-13.2 4.29,-13.2 4.29,13.2 -4.29,13.2 -4.29,-13.2
Top Designator:
  text ".Designator" at -7.618,-0.508 h1.52

## PinHeader_2x21_P1.27mm_Horizontal [mm]
pads (42):
  rect 1x1 hole 0.65: 1(0,0)
  round 1 hole 0.65: 2(1.27,0) 3(0,-1.27) 4(1.27,-1.27) 5(0,-2.54) 6(1.27,-2.54) 7(0,-3.81) 8(1.27,-3.81) 9(0,-5.08) 10(1.27,-5.08) 11(0,-6.35) 12(1.27,-6.35) 13(0,-7.62) 14(1.27,-7.62) 15(0,-8.89) 16(1.27,-8.89) 17(0,-10.16) 18(1.27,-10.16) 19(0,-11.43) 20(1.27,-11.43) 21(0,-12.7) 22(1.27,-12.7) 23(0,-13.97) 24(1.27,-13.97) 25(0,-15.24) 26(1.27,-15.24) 27(0,-16.51) 28(1.27,-16.51) 29(0,-17.78) 30(1.27,-17.78) 31(0,-19.05) 32(1.27,-19.05) 33(0,-20.32) 34(1.27,-20.32) 35(0,-21.59) 36(1.27,-21.59) 37(0,-22.86) 38(1.27,-22.86) 39(0,-24.13) 40(1.27,-24.13) 41(0,-25.4) 42(1.27,-25.4)
F.SilkS:
  lines w0.254: -0.81,0 -0.81,0.81 0,0.81 ; 1.588,0.745 2.88,0.745 2.88,-26.145 1.66,-26.145 ; 1.773,-24.765 2.88,-24.765 ; 1.773,-23.495 2.88,-23.495 ; 1.773,-22.225 2.88,-22.225 ; 1.773,-20.955 2.88,-20.955 ; 1.773,-19.685 2.88,-19.685 ; 1.773,-18.415 2.88,-18.415 ; 1.773,-17.145 2.88,-17.145 ; 1.773,-15.875 2.88,-15.875 ; 1.773,-14.605 2.88,-14.605 ; 1.773,-13.335 2.88,-13.335 ; 1.773,-12.065 2.88,-12.065 ; 1.773,-10.795 2.88,-10.795 ; 1.773,-9.525 2.88,-9.525 ; 1.773,-8.255 2.88,-8.255 ; 1.773,-6.985 2.88,-6.985 ; 1.773,-5.715 2.88,-5.715 ; 1.773,-4.445 2.88,-4.445 ; 1.773,-3.175 2.88,-3.175 ; 1.773,-1.905 2.88,-1.905 ; 1.773,-0.635 2.88,-0.635 ; 2.88,-25.71 6.88,-25.71 6.88,-25.09 2.88,-25.09 ; 2.88,-24.44 6.88,-24.44 6.88,-23.82 2.88,-23.82 ; 2.88,-23.17 6.88,-23.17 6.88,-22.55 2.88,-22.55 ; 2.88,-21.9 6.88,-21.9 6.88,-21.28 2.88,-21.28 ; 2.88,-20.63 6.88,-20.63 6.88,-20.01 2.88,-20.01 ; 2.88,-19.36 6.88,-19.36 6.88,-18.74 2.88,-18.74 ; 2.88,-18.09 6.88,-18.09 6.88,-17.47 2.88,-17.47 ; 2.88,-16.82 6.88,-16.82 6.88,-16.2 2.88,-16.2 ; 2.88,-15.55 6.88,-15.55 6.88,-14.93 2.88,-14.93 ; 2.88,-14.28 6.88,-14.28 6.88,-13.66 2.88,-13.66 ; 2.88,-13.01 6.88,-13.01 6.88,-12.39 2.88,-12.39 ; 2.88,-11.74 6.88,-11.74 6.88,-11.12 2.88,-11.12 ; 2.88,-10.47 6.88,-10.47 6.88,-9.85 2.88,-9.85 ; 2.88,-9.2 6.88,-9.2 6.88,-8.58 2.88,-8.58 ; 2.88,-7.93 6.88,-7.93 6.88,-7.31 2.88,-7.31 ; 2.88,-6.66 6.88,-6.66 6.88,-6.04 2.88,-6.04 ; 2.88,-5.39 6.88,-5.39 6.88,-4.77 2.88,-4.77 ; 2.88,-4.12 6.88,-4.12 6.88,-3.5 2.88,-3.5 ; 2.88,-2.85 6.88,-2.85 6.88,-2.23 2.88,-2.23 ; 2.88,-1.58 6.88,-1.58 6.88,-0.96 2.88,-0.96 ; 2.88,-0.31 6.88,-0.31 6.88,0.31 2.88,0.31 2.88,-0.31
Top Assembly:
  lines w0.254: 1.77,-25.6 -0.2,-25.6 -0.2,-25.2 1.77,-25.2 ; 1.77,-24.33 -0.2,-24.33 -0.2,-23.93 1.77,-23.93 ; 1.77,-23.06 -0.2,-23.06 -0.2,-22.66 1.77,-22.66 ; 1.77,-21.79 -0.2,-21.79 -0.2,-21.39 1.77,-21.39 ; 1.77,-20.52 -0.2,-20.52 -0.2,-20.12 1.77,-20.12 ; 1.77,-19.25 -0.2,-19.25 -0.2,-18.85 1.77,-18.85 ; 1.77,-17.98 -0.2,-17.98 -0.2,-17.58 1.77,-17.58 ; 1.77,-16.71 -0.2,-16.71 -0.2,-16.31 1.77,-16.31 ; 1.77,-15.44 -0.2,-15.44 -0.2,-15.04 1.77,-15.04 ; 1.77,-14.17 -0.2,-14.17 -0.2,-13.77 1.77,-13.77 ; 1.77,-12.9 -0.2,-12.9 -0.2,-12.5 1.77,-12.5 ; 1.77,-11.63 -0.2,-11.63 -0.2,-11.23 1.77,-11.23 ; 1.77,-10.36 -0.2,-10.36 -0.2,-9.96 1.77,-9.96 ; 1.77,-9.09 -0.2,-9.09 -0.2,-8.69 1.77,-8.69 ; 1.77,-7.82 -0.2,-7.82 -0.2,-7.42 1.77,-7.42 ; 1.77,-6.55 -0.2,-6.55 -0.2,-6.15 1.77,-6.15 ; 1.77,-5.28 -0.2,-5.28 -0.2,-4.88 1.77,-4.88 ; 1.77,-4.01 -0.2,-4.01 -0.2,-3.61 1.77,-3.61 ; 1.77,-2.74 -0.2,-2.74 -0.2,-2.34 1.77,-2.34 ; 1.77,-1.47 -0.2,-1.47 -0.2,-1.07 1.77,-1.07 ; 1.77,-0.2 -0.2,-0.2 -0.2,0.2 1.77,0.2 ; 2.77,-25.6 6.77,-25.6 6.77,-25.2 2.77,-25.2 ; 2.77,-24.33 6.77,-24.33 6.77,-23.93 2.77,-23.93 ; 2.77,-23.06 6.77,-23.06 6.77,-22.66 2.77,-22.66 ; 2.77,-21.79 6.77,-21.79 6.77,-21.39 2.77,-21.39 ; 2.77,-20.52 6.77,-20.52 6.77,-20.12 2.77,-20.12 ; 2.77,-19.25 6.77,-19.25 6.77,-18.85 2.77,-18.85 ; 2.77,-17.98 6.77,-17.98 6.77,-17.58 2.77,-17.58 ; 2.77,-16.71 6.77,-16.71 6.77,-16.31 2.77,-16.31 ; 2.77,-15.44 6.77,-15.44 6.77,-15.04 2.77,-15.04 ; 2.77,-14.17 6.77,-14.17 6.77,-13.77 2.77,-13.77 ; 2.77,-12.9 6.77,-12.9 6.77,-12.5 2.77,-12.5 ; 2.77,-11.63 6.77,-11.63 6.77,-11.23 2.77,-11.23 ; 2.77,-10.36 6.77,-10.36 6.77,-9.96 2.77,-9.96 ; 2.77,-9.09 6.77,-9.09 6.77,-8.69 2.77,-8.69 ; 2.77,-7.82 6.77,-7.82 6.77,-7.42 2.77,-7.42 ; 2.77,-6.55 6.77,-6.55 6.77,-6.15 2.77,-6.15 ; 2.77,-5.28 6.77,-5.28 6.77,-4.88 2.77,-4.88 ; 2.77,-4.01 6.77,-4.01 6.77,-3.61 2.77,-3.61 ; 2.77,-2.74 6.77,-2.74 6.77,-2.34 2.77,-2.34 ; 2.77,-1.47 6.77,-1.47 6.77,-1.07 2.77,-1.07 ; 2.77,-0.2 6.77,-0.2 6.77,0.2 2.77,0.2 ; 1.77,-26.035 2.77,-26.035 2.77,0.635 2.02,0.635 1.77,0.385 1.77,-26.035
  text "'.Designator'" at 2.774,-15.128 h0.6
Top Courtyard:
  lines w0.254: -1.14,-26.54 7.28,-26.54 7.28,1.14 -1.14,1.14 -1.14,-26.54
Top Designator:
  text ".Designator" at -4.548,-13.208 h1.52

## PinHeader_2x21_P1.27mm_Vertical [mm]
pads (42):
  rect 1x1 hole 0.65: 1(0,0)
  round 1 hole 0.65: 2(1.27,0) 3(0,-1.27) 4(1.27,-1.27) 5(0,-2.54) 6(1.27,-2.54) 7(0,-3.81) 8(1.27,-3.81) 9(0,-5.08) 10(1.27,-5.08) 11(0,-6.35) 12(1.27,-6.35) 13(0,-7.62) 14(1.27,-7.62) 15(0,-8.89) 16(1.27,-8.89) 17(0,-10.16) 18(1.27,-10.16) 19(0,-11.43) 20(1.27,-11.43) 21(0,-12.7) 22(1.27,-12.7) 23(0,-13.97) 24(1.27,-13.97) 25(0,-15.24) 26(1.27,-15.24) 27(0,-16.51) 28(1.27,-16.51) 29(0,-17.78) 30(1.27,-17.78) 31(0,-19.05) 32(1.27,-19.05) 33(0,-20.32) 34(1.27,-20.32) 35(0,-21.59) 36(1.27,-21.59) 37(0,-22.86) 38(1.27,-22.86) 39(0,-24.13) 40(1.27,-24.13) 41(0,-25.4) 42(1.27,-25.4)
F.SilkS:
  lines w0.254: -1.18,0 -1.18,0.81 0,0.81 ; -0.667,-0.81 -1.18,-0.81 -1.18,-26.145 -0.318,-26.145 ; 0.318,-26.145 0.952,-26.145 ; 1.588,-26.145 2.45,-26.145 2.45,0.745 1.588,0.745
Top Assembly:
  lines w0.254: -1.07,-26.035 2.34,-26.035 2.34,0.635 -0.218,0.635 -1.07,-0.218 -1.07,-26.035
  text "'.Designator'" at 1.475,-16.747 h1
Top Courtyard:
  lines w0.254: -1.57,-26.54 2.84,-26.54 2.84,1.14 -1.57,1.14 -1.57,-26.54
Top Designator:
  text ".Designator" at -6.983,-13.208 h1.52

## PinHeader_2x21_P1.27mm_Vertical_SMD [mm]
pads (42):
  rect 2.4x0.74 smd: 1(-1.95,12.7) 2(1.95,12.7) 3(-1.95,11.43) 4(1.95,11.43) 5(-1.95,10.16) 6(1.95,10.16) 7(-1.95,8.89) 8(1.95,8.89) 9(-1.95,7.62) 10(1.95,7.62) 11(-1.95,6.35) 12(1.95,6.35) 13(-1.95,5.08) 14(1.95,5.08) 15(-1.95,3.81) 16(1.95,3.81) 17(-1.95,2.54) 18(1.95,2.54) 19(-1.95,1.27) 20(1.95,1.27) 21(-1.95,0) 22(1.95,0) 23(-1.95,-1.27) 24(1.95,-1.27) 25(-1.95,-2.54) 26(1.95,-2.54) 27(-1.95,-3.81) 28(1.95,-3.81) 29(-1.95,-5.08) 30(1.95,-5.08) 31(-1.95,-6.35) 32(1.95,-6.35) 33(-1.95,-7.62) 34(1.95,-7.62) 35(-1.95,-8.89) 36(1.95,-8.89) 37(-1.95,-10.16) 38(1.95,-10.16) 39(-1.95,-11.43) 40(1.95,-11.43) 41(-1.95,-12.7) 42(1.95,-12.7)
F.SilkS:
  lines w0.254: -3.09,13.38 -1.815,13.38 -1.815,13.445 1.815,13.445 1.815,13.38 ; -1.815,-13.38 -1.815,-13.445 1.815,-13.445 1.815,-13.38
Top Assembly:
  lines w0.254: -1.705,-12.9 -2.75,-12.9 -2.75,-12.5 -1.705,-12.5 ; -1.705,-11.63 -2.75,-11.63 -2.75,-11.23 -1.705,-11.23 ; -1.705,-10.36 -2.75,-10.36 -2.75,-9.96 -1.705,-9.96 ; -1.705,-9.09 -2.75,-9.09 -2.75,-8.69 -1.705,-8.69 ; -1.705,-7.82 -2.75,-7.82 -2.75,-7.42 -1.705,-7.42 ; -1.705,-6.55 -2.75,-6.55 -2.75,-6.15 -1.705,-6.15 ; -1.705,-5.28 -2.75,-5.28 -2.75,-4.88 -1.705,-4.88 ; -1.705,-4.01 -2.75,-4.01 -2.75,-3.61 -1.705,-3.61 ; -1.705,-2.74 -2.75,-2.74 -2.75,-2.34 -1.705,-2.34 ; -1.705,-1.47 -2.75,-1.47 -2.75,-1.07 -1.705,-1.07 ; -1.705,-0.2 -2.75,-0.2 -2.75,0.2 -1.705,0.2 ; -1.705,1.07 -2.75,1.07 -2.75,1.47 -1.705,1.47 ; -1.705,2.34 -2.75,2.34 -2.75,2.74 -1.705,2.74 ; -1.705,3.61 -2.75,3.61 -2.75,4.01 -1.705,4.01 ; -1.705,4.88 -2.75,4.88 -2.75,5.28 -1.705,5.28 ; -1.705,6.15 -2.75,6.15 -2.75,6.55 -1.705,6.55 ; -1.705,7.42 -2.75,7.42 -2.75,7.82 -1.705,7.82 ; -1.705,8.69 -2.75,8.69 -2.75,9.09 -1.705,9.09 ; -1.705,9.96 -2.75,9.96 -2.75,10.36 -1.705,10.36 ; -1.705,11.23 -2.75,11.23 -2.75,11.63 -1.705,11.63 ; -1.705,12.5 -2.75,12.5 -2.75,12.9 -1.705,12.9 ; 1.705,-12.9 2.75,-12.9 2.75,-12.5 1.705,-12.5 ; 1.705,-11.63 2.75,-11.63 2.75,-11.23 1.705,-11.23 ; 1.705,-10.36 2.75,-10.36 2.75,-9.96 1.705,-9.96 ; 1.705,-9.09 2.75,-9.09 2.75,-8.69 1.705,-8.69 ; 1.705,-7.82 2.75,-7.82 2.75,-7.42 1.705,-7.42 ; 1.705,-6.55 2.75,-6.55 2.75,-6.15 1.705,-6.15 ; 1.705,-5.28 2.75,-5.28 2.75,-4.88 1.705,-4.88 ; 1.705,-4.01 2.75,-4.01 2.75,-3.61 1.705,-3.61 ; 1.705,-2.74 2.75,-2.74 2.75,-2.34 1.705,-2.34 ; 1.705,-1.47 2.75,-1.47 2.75,-1.07 1.705,-1.07 ; 1.705,-0.2 2.75,-0.2 2.75,0.2 1.705,0.2 ; 1.705,1.07 2.75,1.07 2.75,1.47 1.705,1.47 ; 1.705,2.34 2.75,2.34 2.75,2.74 1.705,2.74 ; 1.705,3.61 2.75,3.61 2.75,4.01 1.705,4.01 ; 1.705,4.88 2.75,4.88 2.75,5.28 1.705,5.28 ; 1.705,6.15 2.75,6.15 2.75,6.55 1.705,6.55 ; 1.705,7.42 2.75,7.42 2.75,7.82 1.705,7.82 ; 1.705,8.69 2.75,8.69 2.75,9.09 1.705,9.09 ; 1.705,9.96 2.75,9.96 2.75,10.36 1.705,10.36 ; 1.705,11.23 2.75,11.23 2.75,11.63 1.705,11.63 ; 1.705,12.5 2.75,12.5 2.75,12.9 1.705,12.9 ; -1.705,12.9 -1.705,-13.335 1.705,-13.335 1.705,13.335 -1.27,13.335 -1.705,12.9
  text "'.Designator'" at 0.84,-4.047 h1
Top Courtyard:
  lines w0.254: -4.29,-13.84 4.29,-13.84 4.29,13.84 -4.29,13.84 -4.29,-13.84
Top Designator:
  text ".Designator" at -7.618,-0.508 h1.52

## PinHeader_2x22_P1.27mm_Horizontal [mm]
pads (44):
  rect 1x1 hole 0.65: 1(0,0)
  round 1 hole 0.65: 2(1.27,0) 3(0,-1.27) 4(1.27,-1.27) 5(0,-2.54) 6(1.27,-2.54) 7(0,-3.81) 8(1.27,-3.81) 9(0,-5.08) 10(1.27,-5.08) 11(0,-6.35) 12(1.27,-6.35) 13(0,-7.62) 14(1.27,-7.62) 15(0,-8.89) 16(1.27,-8.89) 17(0,-10.16) 18(1.27,-10.16) 19(0,-11.43) 20(1.27,-11.43) 21(0,-12.7) 22(1.27,-12.7) 23(0,-13.97) 24(1.27,-13.97) 25(0,-15.24) 26(1.27,-15.24) 27(0,-16.51) 28(1.27,-16.51) 29(0,-17.78) 30(1.27,-17.78) 31(0,-19.05) 32(1.27,-19.05) 33(0,-20.32) 34(1.27,-20.32) 35(0,-21.59) 36(1.27,-21.59) 37(0,-22.86) 38(1.27,-22.86) 39(0,-24.13) 40(1.27,-24.13) 41(0,-25.4) 42(1.27,-25.4) 43(0,-26.67) 44(1.27,-26.67)
F.SilkS:
  lines w0.254: -0.81,0 -0.81,0.81 0,0.81 ; 1.588,0.745 2.88,0.745 2.88,-27.415 1.66,-27.415 ; 1.773,-26.035 2.88,-26.035 ; 1.773,-24.765 2.88,-24.765 ; 1.773,-23.495 2.88,-23.495 ; 1.773,-22.225 2.88,-22.225 ; 1.773,-20.955 2.88,-20.955 ; 1.773,-19.685 2.88,-19.685 ; 1.773,-18.415 2.88,-18.415 ; 1.773,-17.145 2.88,-17.145 ; 1.773,-15.875 2.88,-15.875 ; 1.773,-14.605 2.88,-14.605 ; 1.773,-13.335 2.88,-13.335 ; 1.773,-12.065 2.88,-12.065 ; 1.773,-10.795 2.88,-10.795 ; 1.773,-9.525 2.88,-9.525 ; 1.773,-8.255 2.88,-8.255 ; 1.773,-6.985 2.88,-6.985 ; 1.773,-5.715 2.88,-5.715 ; 1.773,-4.445 2.88,-4.445 ; 1.773,-3.175 2.88,-3.175 ; 1.773,-1.905 2.88,-1.905 ; 1.773,-0.635 2.88,-0.635 ; 2.88,-26.98 6.88,-26.98 6.88,-26.36 2.88,-26.36 ; 2.88,-25.71 6.88,-25.71 6.88,-25.09 2.88,-25.09 ; 2.88,-24.44 6.88,-24.44 6.88,-23.82 2.88,-23.82 ; 2.88,-23.17 6.88,-23.17 6.88,-22.55 2.88,-22.55 ; 2.88,-21.9 6.88,-21.9 6.88,-21.28 2.88,-21.28 ; 2.88,-20.63 6.88,-20.63 6.88,-20.01 2.88,-20.01 ; 2.88,-19.36 6.88,-19.36 6.88,-18.74 2.88,-18.74 ; 2.88,-18.09 6.88,-18.09 6.88,-17.47 2.88,-17.47 ; 2.88,-16.82 6.88,-16.82 6.88,-16.2 2.88,-16.2 ; 2.88,-15.55 6.88,-15.55 6.88,-14.93 2.88,-14.93 ; 2.88,-14.28 6.88,-14.28 6.88,-13.66 2.88,-13.66 ; 2.88,-13.01 6.88,-13.01 6.88,-12.39 2.88,-12.39 ; 2.88,-11.74 6.88,-11.74 6.88,-11.12 2.88,-11.12 ; 2.88,-10.47 6.88,-10.47 6.88,-9.85 2.88,-9.85 ; 2.88,-9.2 6.88,-9.2 6.88,-8.58 2.88,-8.58 ; 2.88,-7.93 6.88,-7.93 6.88,-7.31 2.88,-7.31 ; 2.88,-6.66 6.88,-6.66 6.88,-6.04 2.88,-6.04 ; 2.88,-5.39 6.88,-5.39 6.88,-4.77 2.88,-4.77 ; 2.88,-4.12 6.88,-4.12 6.88,-3.5 2.88,-3.5 ; 2.88,-2.85 6.88,-2.85 6.88,-2.23 2.88,-2.23 ; 2.88,-1.58 6.88,-1.58 6.88,-0.96 2.88,-0.96 ; 2.88,-0.31 6.88,-0.31 6.88,0.31 2.88,0.31 2.88,-0.31
Top Assembly:
  lines w0.254: 1.77,-26.87 -0.2,-26.87 -0.2,-26.47 1.77,-26.47 ; 1.77,-25.6 -0.2,-25.6 -0.2,-25.2 1.77,-25.2 ; 1.77,-24.33 -0.2,-24.33 -0.2,-23.93 1.77,-23.93 ; 1.77,-23.06 -0.2,-23.06 -0.2,-22.66 1.77,-22.66 ; 1.77,-21.79 -0.2,-21.79 -0.2,-21.39 1.77,-21.39 ; 1.77,-20.52 -0.2,-20.52 -0.2,-20.12 1.77,-20.12 ; 1.77,-19.25 -0.2,-19.25 -0.2,-18.85 1.77,-18.85 ; 1.77,-17.98 -0.2,-17.98 -0.2,-17.58 1.77,-17.58 ; 1.77,-16.71 -0.2,-16.71 -0.2,-16.31 1.77,-16.31 ; 1.77,-15.44 -0.2,-15.44 -0.2,-15.04 1.77,-15.04 ; 1.77,-14.17 -0.2,-14.17 -0.2,-13.77 1.77,-13.77 ; 1.77,-12.9 -0.2,-12.9 -0.2,-12.5 1.77,-12.5 ; 1.77,-11.63 -0.2,-11.63 -0.2,-11.23 1.77,-11.23 ; 1.77,-10.36 -0.2,-10.36 -0.2,-9.96 1.77,-9.96 ; 1.77,-9.09 -0.2,-9.09 -0.2,-8.69 1.77,-8.69 ; 1.77,-7.82 -0.2,-7.82 -0.2,-7.42 1.77,-7.42 ; 1.77,-6.55 -0.2,-6.55 -0.2,-6.15 1.77,-6.15 ; 1.77,-5.28 -0.2,-5.28 -0.2,-4.88 1.77,-4.88 ; 1.77,-4.01 -0.2,-4.01 -0.2,-3.61 1.77,-3.61 ; 1.77,-2.74 -0.2,-2.74 -0.2,-2.34 1.77,-2.34 ; 1.77,-1.47 -0.2,-1.47 -0.2,-1.07 1.77,-1.07 ; 1.77,-0.2 -0.2,-0.2 -0.2,0.2 1.77,0.2 ; 2.77,-26.87 6.77,-26.87 6.77,-26.47 2.77,-26.47 ; 2.77,-25.6 6.77,-25.6 6.77,-25.2 2.77,-25.2 ; 2.77,-24.33 6.77,-24.33 6.77,-23.93 2.77,-23.93 ; 2.77,-23.06 6.77,-23.06 6.77,-22.66 2.77,-22.66 ; 2.77,-21.79 6.77,-21.79 6.77,-21.39 2.77,-21.39 ; 2.77,-20.52 6.77,-20.52 6.77,-20.12 2.77,-20.12 ; 2.77,-19.25 6.77,-19.25 6.77,-18.85 2.77,-18.85 ; 2.77,-17.98 6.77,-17.98 6.77,-17.58 2.77,-17.58 ; 2.77,-16.71 6.77,-16.71 6.77,-16.31 2.77,-16.31 ; 2.77,-15.44 6.77,-15.44 6.77,-15.04 2.77,-15.04 ; 2.77,-14.17 6.77,-14.17 6.77,-13.77 2.77,-13.77 ; 2.77,-12.9 6.77,-12.9 6.77,-12.5 2.77,-12.5 ; 2.77,-11.63 6.77,-11.63 6.77,-11.23 2.77,-11.23 ; 2.77,-10.36 6.77,-10.36 6.77,-9.96 2.77,-9.96 ; 2.77,-9.09 6.77,-9.09 6.77,-8.69 2.77,-8.69 ; 2.77,-7.82 6.77,-7.82 6.77,-7.42 2.77,-7.42 ; 2.77,-6.55 6.77,-6.55 6.77,-6.15 2.77,-6.15 ; 2.77,-5.28 6.77,-5.28 6.77,-4.88 2.77,-4.88 ; 2.77,-4.01 6.77,-4.01 6.77,-3.61 2.77,-3.61 ; 2.77,-2.74 6.77,-2.74 6.77,-2.34 2.77,-2.34 ; 2.77,-1.47 6.77,-1.47 6.77,-1.07 2.77,-1.07 ; 2.77,-0.2 6.77,-0.2 6.77,0.2 2.77,0.2 ; 1.77,-27.305 2.77,-27.305 2.77,0.635 2.02,0.635 1.77,0.385 1.77,-27.305
  text "'.Designator'" at 2.774,-15.763 h0.6
Top Courtyard:
  lines w0.254: -1.14,-27.81 7.28,-27.81 7.28,1.14 -1.14,1.14 -1.14,-27.81
Top Designator:
  text ".Designator" at -4.548,-13.843 h1.52

## PinHeader_2x22_P1.27mm_Vertical [mm]
pads (44):
  rect 1x1 hole 0.65: 1(0,0)
  round 1 hole 0.65: 2(1.27,0) 3(0,-1.27) 4(1.27,-1.27) 5(0,-2.54) 6(1.27,-2.54) 7(0,-3.81) 8(1.27,-3.81) 9(0,-5.08) 10(1.27,-5.08) 11(0,-6.35) 12(1.27,-6.35) 13(0,-7.62) 14(1.27,-7.62) 15(0,-8.89) 16(1.27,-8.89) 17(0,-10.16) 18(1.27,-10.16) 19(0,-11.43) 20(1.27,-11.43) 21(0,-12.7) 22(1.27,-12.7) 23(0,-13.97) 24(1.27,-13.97) 25(0,-15.24) 26(1.27,-15.24) 27(0,-16.51) 28(1.27,-16.51) 29(0,-17.78) 30(1.27,-17.78) 31(0,-19.05) 32(1.27,-19.05) 33(0,-20.32) 34(1.27,-20.32) 35(0,-21.59) 36(1.27,-21.59) 37(0,-22.86) 38(1.27,-22.86) 39(0,-24.13) 40(1.27,-24.13) 41(0,-25.4) 42(1.27,-25.4) 43(0,-26.67) 44(1.27,-26.67)
F.SilkS:
  lines w0.254: -1.18,0 -1.18,0.81 0,0.81 ; -0.667,-0.81 -1.18,-0.81 -1.18,-27.415 -0.318,-27.415 ; 0.318,-27.415 0.952,-27.415 ; 1.588,-27.415 2.45,-27.415 2.45,0.745 1.588,0.745
Top Assembly:
  lines w0.254: -1.07,-27.305 2.34,-27.305 2.34,0.635 -0.218,0.635 -1.07,-0.218 -1.07,-27.305
  text "'.Designator'" at 1.475,-17.382 h1
Top Courtyard:
  lines w0.254: -1.57,-27.81 2.84,-27.81 2.84,1.14 -1.57,1.14 -1.57,-27.81
Top Designator:
  text ".Designator" at -6.983,-13.843 h1.52

## PinHeader_2x22_P1.27mm_Vertical_SMD [mm]
pads (44):
  rect 2.4x0.74 smd: 1(-1.95,13.335) 2(1.95,13.335) 3(-1.95,12.065) 4(1.95,12.065) 5(-1.95,10.795) 6(1.95,10.795) 7(-1.95,9.525) 8(1.95,9.525) 9(-1.95,8.255) 10(1.95,8.255) 11(-1.95,6.985) 12(1.95,6.985) 13(-1.95,5.715) 14(1.95,5.715) 15(-1.95,4.445) 16(1.95,4.445) 17(-1.95,3.175) 18(1.95,3.175) 19(-1.95,1.905) 20(1.95,1.905) 21(-1.95,0.635) 22(1.95,0.635) 23(-1.95,-0.635) 24(1.95,-0.635) 25(-1.95,-1.905) 26(1.95,-1.905) 27(-1.95,-3.175) 28(1.95,-3.175) 29(-1.95,-4.445) 30(1.95,-4.445) 31(-1.95,-5.715) 32(1.95,-5.715) 33(-1.95,-6.985) 34(1.95,-6.985) 35(-1.95,-8.255) 36(1.95,-8.255) 37(-1.95,-9.525) 38(1.95,-9.525) 39(-1.95,-10.795) 40(1.95,-10.795) 41(-1.95,-12.065) 42(1.95,-12.065) 43(-1.95,-13.335) 44(1.95,-13.335)
F.SilkS:
  lines w0.254: -3.09,14.015 -1.815,14.015 -1.815,14.08 1.815,14.08 1.815,14.015 ; -1.815,-14.015 -1.815,-14.08 1.815,-14.08 1.815,-14.015
Top Assembly:
  lines w0.254: -1.705,-13.535 -2.75,-13.535 -2.75,-13.135 -1.705,-13.135 ; -1.705,-12.265 -2.75,-12.265 -2.75,-11.865 -1.705,-11.865 ; -1.705,-10.995 -2.75,-10.995 -2.75,-10.595 -1.705,-10.595 ; -1.705,-9.725 -2.75,-9.725 -2.75,-9.325 -1.705,-9.325 ; -1.705,-8.455 -2.75,-8.455 -2.75,-8.055 -1.705,-8.055 ; -1.705,-7.185 -2.75,-7.185 -2.75,-6.785 -1.705,-6.785 ; -1.705,-5.915 -2.75,-5.915 -2.75,-5.515 -1.705,-5.515 ; -1.705,-4.645 -2.75,-4.645 -2.75,-4.245 -1.705,-4.245 ; -1.705,-3.375 -2.75,-3.375 -2.75,-2.975 -1.705,-2.975 ; -1.705,-2.105 -2.75,-2.105 -2.75,-1.705 -1.705,-1.705 ; -1.705,-0.835 -2.75,-0.835 -2.75,-0.435 -1.705,-0.435 ; -1.705,0.435 -2.75,0.435 -2.75,0.835 -1.705,0.835 ; -1.705,1.705 -2.75,1.705 -2.75,2.105 -1.705,2.105 ; -1.705,2.975 -2.75,2.975 -2.75,3.375 -1.705,3.375 ; -1.705,4.245 -2.75,4.245 -2.75,4.645 -1.705,4.645 ; -1.705,5.515 -2.75,5.515 -2.75,5.915 -1.705,5.915 ; -1.705,6.785 -2.75,6.785 -2.75,7.185 -1.705,7.185 ; -1.705,8.055 -2.75,8.055 -2.75,8.455 -1.705,8.455 ; -1.705,9.325 -2.75,9.325 -2.75,9.725 -1.705,9.725 ; -1.705,10.595 -2.75,10.595 -2.75,10.995 -1.705,10.995 ; -1.705,11.865 -2.75,11.865 -2.75,12.265 -1.705,12.265 ; -1.705,13.135 -2.75,13.135 -2.75,13.535 -1.705,13.535 ; 1.705,-13.535 2.75,-13.535 2.75,-13.135 1.705,-13.135 ; 1.705,-12.265 2.75,-12.265 2.75,-11.865 1.705,-11.865 ; 1.705,-10.995 2.75,-10.995 2.75,-10.595 1.705,-10.595 ; 1.705,-9.725 2.75,-9.725 2.75,-9.325 1.705,-9.325 ; 1.705,-8.455 2.75,-8.455 2.75,-8.055 1.705,-8.055 ; 1.705,-7.185 2.75,-7.185 2.75,-6.785 1.705,-6.785 ; 1.705,-5.915 2.75,-5.915 2.75,-5.515 1.705,-5.515 ; 1.705,-4.645 2.75,-4.645 2.75,-4.245 1.705,-4.245 ; 1.705,-3.375 2.75,-3.375 2.75,-2.975 1.705,-2.975 ; 1.705,-2.105 2.75,-2.105 2.75,-1.705 1.705,-1.705 ; 1.705,-0.835 2.75,-0.835 2.75,-0.435 1.705,-0.435 ; 1.705,0.435 2.75,0.435 2.75,0.835 1.705,0.835 ; 1.705,1.705 2.75,1.705 2.75,2.105 1.705,2.105 ; 1.705,2.975 2.75,2.975 2.75,3.375 1.705,3.375 ; 1.705,4.245 2.75,4.245 2.75,4.645 1.705,4.645 ; 1.705,5.515 2.75,5.515 2.75,5.915 1.705,5.915 ; 1.705,6.785 2.75,6.785 2.75,7.185 1.705,7.185 ; 1.705,8.055 2.75,8.055 2.75,8.455 1.705,8.455 ; 1.705,9.325 2.75,9.325 2.75,9.725 1.705,9.725 ; 1.705,10.595 2.75,10.595 2.75,10.995 1.705,10.995 ; 1.705,11.865 2.75,11.865 2.75,12.265 1.705,12.265 ; 1.705,13.135 2.75,13.135 2.75,13.535 1.705,13.535 ; -1.705,13.535 -1.705,-13.97 1.705,-13.97 1.705,13.97 -1.27,13.97 -1.705,13.535
  text "'.Designator'" at 0.84,-4.047 h1
Top Courtyard:
  lines w0.254: -4.29,-14.48 4.29,-14.48 4.29,14.48 -4.29,14.48 -4.29,-14.48
Top Designator:
  text ".Designator" at -7.618,-0.508 h1.52